# EAGLE library part 1273ПА6У (library dac)
АЕЯР.431320.676 ТУ 1273ПА6У - 14-разрядный 2-х канальный ЦАП с токовым выходом, частота обновления выходных данных 300 МГц. Производитель: "НИИЭТ", г. Воронеж. Технические условия: АЕЯР.431320.676 ТУ
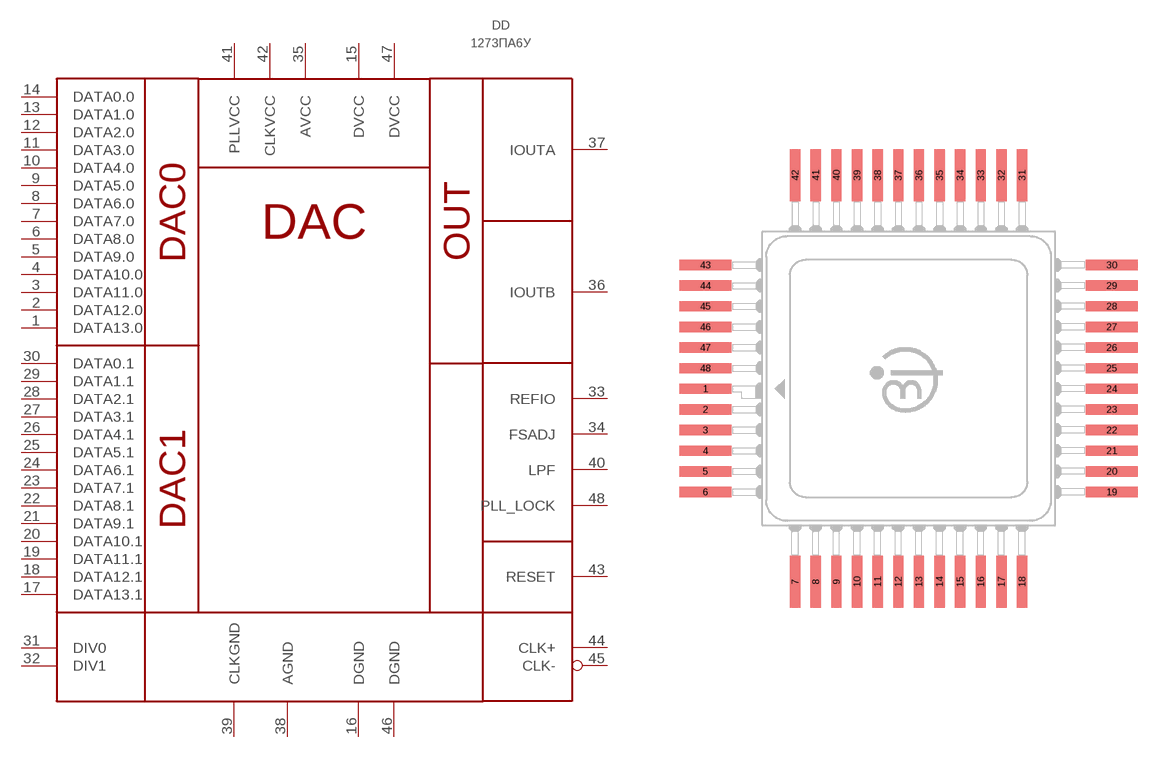
[diagram p0: symbol with the pads of 5133.48-3; footprint 5133.48-3]

Designator prefix DD

## 1273ПА6У  [5133.48-3]
1  DATA13.0  in
2  DATA12.0  in
3  DATA11.0  in
4  DATA10.0  in
5  DATA9.0  in
6  DATA8.0  in
7  DATA7.0  in
8  DATA6.0  in
9  DATA5.0  in
10  DATA4.0  in
11  DATA3.0  in
12  DATA2.0  in
13  DATA1.0  in
14  DATA0.0  in
15  DVCC  pwr
16  DGND  pwr
17  DATA13.1  in
18  DATA12.1  in
19  DATA11.1  in
20  DATA10.1  in
21  DATA9.1  in
22  DATA8.1  in
23  DATA7.1  in
24  DATA6.1  in
25  DATA5.1  in
26  DATA4.1  in
27  DATA3.1  in
28  DATA2.1  in
29  DATA1.1  in
30  DATA0.1  in
31  DIV0  in
32  DIV1  in
33  REFIO
34  FSADJ  in
35  AVCC  pwr
36  IOUTB  out
37  IOUTA  out
38  AGND  pwr
39  CLKGND  pwr
40  LPF  in
41  PLLVCC  pwr
42  CLKVCC  pwr
43  RESET  in
44  CLK+  in
45  CLK-  in
46  DGND  pwr
47  DVCC  pwr
48  PLL_LOCK  out

## Footprint 5133.48-3 (pad centres in mm)
smd 2.5 x 0.5: 1 -9.85,-0.5; 2 -9.85,-1.5; 3 -9.85,-2.5; 4 -9.85,-3.5; 5 -9.85,-4.5; 6 -9.85,-5.5; 19 9.85,-5.5; 20 9.85,-4.5; 21 9.85,-3.5; 22 9.85,-2.5; 23 9.85,-1.5; 24 9.85,-0.5; 25 9.85,0.5; 26 9.85,1.5; 27 9.85,2.5; 28 9.85,3.5; 29 9.85,4.5; 30 9.85,5.5; 43 -9.85,5.5; 44 -9.85,4.5; 45 -9.85,3.5; 46 -9.85,2.5; 47 -9.85,1.5; 48 -9.85,0.5
smd 0.5 x 2.5: 7 -5.5,-9.85; 8 -4.5,-9.85; 9 -3.5,-9.85; 10 -2.5,-9.85; 11 -1.5,-9.85; 12 -0.5,-9.85; 13 0.5,-9.85; 14 1.5,-9.85; 15 2.5,-9.85; 16 3.5,-9.85; 17 4.5,-9.85; 18 5.5,-9.85; 31 5.5,9.85; 32 4.5,9.85; 33 3.5,9.85; 34 2.5,9.85; 35 1.5,9.85; 36 0.5,9.85; 37 -0.5,9.85; 38 -1.5,9.85; 39 -2.5,9.85; 40 -3.5,9.85; 41 -4.5,9.85; 42 -5.5,9.85